# EAGLE library part PANASONIC_P4S_20POS (library ck)
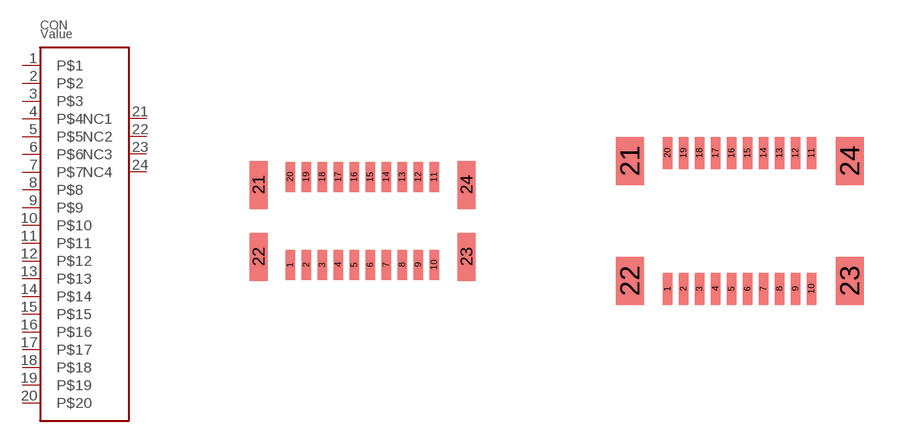
[diagram p22: symbol with the pads of PANASONIC_PLG_P4S_20POS; footprints PANASONIC_PLG_P4S_20POS, PANASONIC_REC_P4S_20POS]

Designator prefix CON

## PANASONIC_P4S_20POSPLG  [PANASONIC_PLG_P4S_20POS]
1  P$1
2  P$2
3  P$3
4  P$4
5  P$5
6  P$6
7  P$7
8  P$8
9  P$9
10  P$10
11  P$11
12  P$12
13  P$13
14  P$14
15  P$15
16  P$16
17  P$17
18  P$18
19  P$19
20  P$20
21  NC1
22  NC2
23  NC3
24  NC4

## PANASONIC_P4S_20POSREC  [PANASONIC_REC_P4S_20POS]
Pads as for PANASONIC_PLG_P4S_20POS

## Footprint PANASONIC_PLG_P4S_20POS (pad centres in mm)
smd 0.23 x 0.75: 1 0.8,-1.1; 2 1.2,-1.1; 3 1.6,-1.1; 4 2,-1.1; 5 2.4,-1.1; 6 2.8,-1.1; 7 3.2,-1.1; 8 3.6,-1.1; 9 4,-1.1; 10 4.4,-1.1; 11 4.4,1.1; 12 4,1.1; 13 3.6,1.1; 14 3.2,1.1; 15 2.8,1.1; 16 2.4,1.1; 17 2,1.1; 18 1.6,1.1; 19 1.2,1.1; 20 0.8,1.1
smd 0.45 x 1.2: 21 0,0.9; 22 0,-0.9; 23 5.2,-0.9; 24 5.2,0.9

## Footprint PANASONIC_REC_P4S_20POS (pad centres in mm)
smd 0.23 x 0.8: 1 0.95,-1.7; 2 1.35,-1.7; 3 1.75,-1.7; 4 2.15,-1.7; 5 2.55,-1.7; 6 2.95,-1.7; 7 3.35,-1.7; 8 3.75,-1.7; 9 4.15,-1.7; 10 4.55,-1.7; 11 4.55,1.7; 12 4.15,1.7; 13 3.75,1.7; 14 3.35,1.7; 15 2.95,1.7; 16 2.55,1.7; 17 2.15,1.7; 18 1.75,1.7; 19 1.35,1.7; 20 0.95,1.7
smd 0.7 x 1.2: 21 0,1.5; 22 0,-1.5; 23 5.5,-1.5; 24 5.5,1.5